# Altium footprint library MODEM_R2_1.PcbLib: 20 footprints (part 2 of 2)
Each footprint in its own frame and in the unit in brackets; x right, y up, seen from the top. Pads: shape width x height; smd on the part's side, far side on the other; paste and mask are expansions set on the pad; w line width, h text height; cw(c..) or ccw(c..) is an arc to the next point about the centre after c.
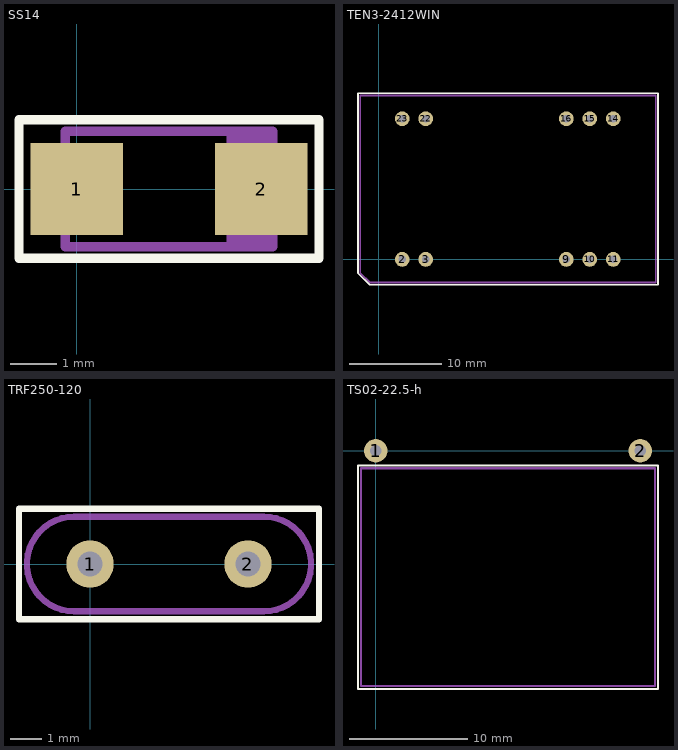
[diagram p1: the footprints below, top view; thin cyan lines are the x and y axes]

## SS14 [mm]
height 2.5
pads (2):
  rect 2x2 smd: 1(0,0) 2(4,0)
Top Overlay:
  lines w0.2: -1.25,-1.5 5.25,-1.5 5.25,1.5 -1.25,1.5 -1.25,-1.5
Mechanical 1:
  rectangle: 3.25,-1.25 4.25,1.25
  lines w0.2: -0.25,-1.25 -0.25,1.25 4.25,1.25 4.25,-1.25 -0.25,-1.25

## TEN3-2412WIN [mm]
height 10.5
pads (10):
  round 1.6 hole 0.8: 2(2.54,0) 3(5.08,0) 9(20.32,0) 10(22.86,0) 11(25.4,0) 14(25.4,15.24) 15(22.86,15.24) 16(20.32,15.24) 22(5.08,15.24) 23(2.54,15.24)
Top Overlay:
  lines w0.2: -2.25,-1.5 -1,-2.75 30.25,-2.75 30.25,18 -2.25,18 -2.25,-1.5
Mechanical 1:
  lines w0.2: -2,-1.5 -2,17.75 30,17.75 30,-2.5 -1,-2.5 -2,-1.5

## TRF250-120 [mm]
height 15
pads (2):
  round 1.5 hole 0.8: 1(0,0) 2(5,0)
Top Overlay:
  lines w0.2: -2.25,-1.75 -2.25,1.75 7.25,1.75 7.25,-1.75 -2.25,-1.75
Mechanical 1:
  lines w0.2: -0.5,-1.5 cw(c-0.5,0) -0.5,1.5 5.5,1.5 cw(c5.5,0) 5.5,-1.5 -0.5,-1.5

## TS02-22.5-h [mm]
height 13
pads (2):
  round 2 hole 1: 1(0,0) 2(22.5,0)
Top Overlay:
  lines w0.2: -1.5,-20.25 -1.5,-1.25 24,-1.25 24,-20.25 -1.5,-20.25
Mechanical 1:
  lines w0.2: -1.25,-20 -1.25,-1.5 23.75,-1.5 23.75,-20 -1.25,-20